# EAGLE library part ADG3301 (library lib_stankus)
Analog Devices ADG3301 level shifter Farnell #2067851
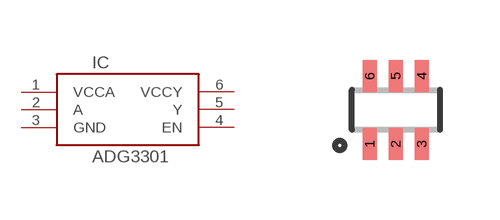
[diagram p45: symbol with the pads of SC70-6; footprint SC70-6]

Designator prefix IC

## ADG3301-SC70-6  [SC70-6]
1  VCCA  pas
2  A  pas
3  GND  pas
4  EN  pas
5  Y  pas
6  VCCY  pas

## Footprint SC70-6 (pad centres in mm)
SC70-6
smd 0.35 x 0.8: 1 -0.65,-0.85; 2 0,-0.85; 3 0.65,-0.85; 4 0.65,0.85; 5 0,0.85; 6 -0.65,0.85